# Altium footprint library OSC_SMD_ASV.PcbLib: 2 footprints
Each footprint in its own frame and in the unit in brackets; x right, y up, seen from the top. Pads: shape width x height; smd on the part's side, far side on the other; paste and mask are expansions set on the pad; w line width, h text height; cw(c..) or ccw(c..) is an arc to the next point about the centre after c.
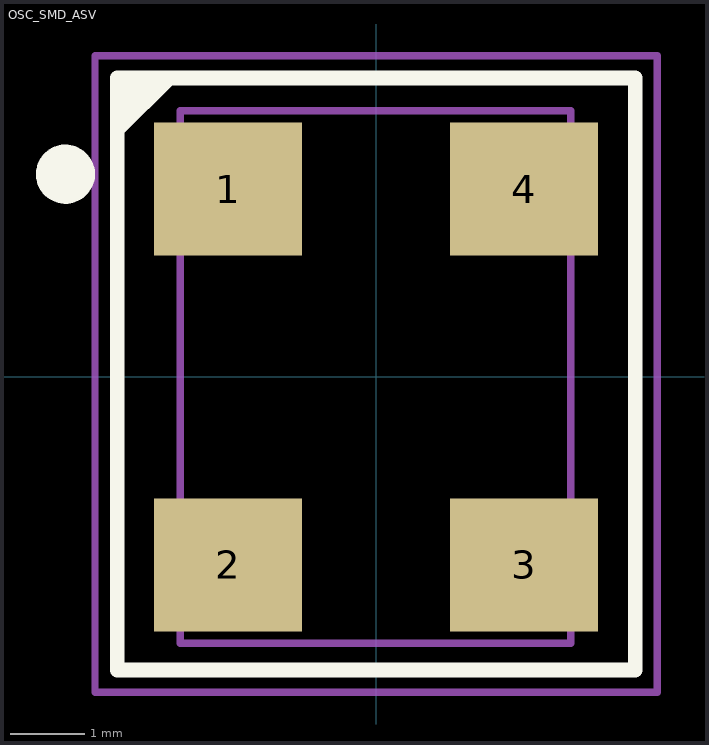
[diagram p0: the footprints below, top view; thin cyan lines are the x and y axes]

## OSC_SMD_ASV [mm]
pads (4):
  rect 2x1.8 smd: 1(-2,2.54) 2(-2,-2.54) 3(2,-2.54) 4(2,2.54)
Top Overlay:
  circle w0.4: c-4.2,2.74 r0.2
  lines w0.2: -3.5,3.34 -2.8,4.04 ; -3.5,3.54 -3,4.04 ; -3.5,3.74 -3.2,4.04 ; -3.5,-3.96 -3.5,4.04 3.5,4.04 3.5,-3.96 -3.5,-3.96
Mechanical 13:
  lines w0.1: -2.65,-3.6 -2.65,3.6 2.63,3.6 2.63,-3.6 -2.65,-3.6
Mechanical 15:
  lines w0.1: -3.8,-4.26 -3.8,4.34 3.8,4.34 3.8,-4.26 -3.8,-4.26
3D body: height 1.8, standoff -0.01, extent -2.55,-3.5 2.53,3.5

## PCBComponent_1 [mm]